# EAGLE library part TPA6120A2 (library Fugu_LSI)
High Fidelity Headphone Amplifier
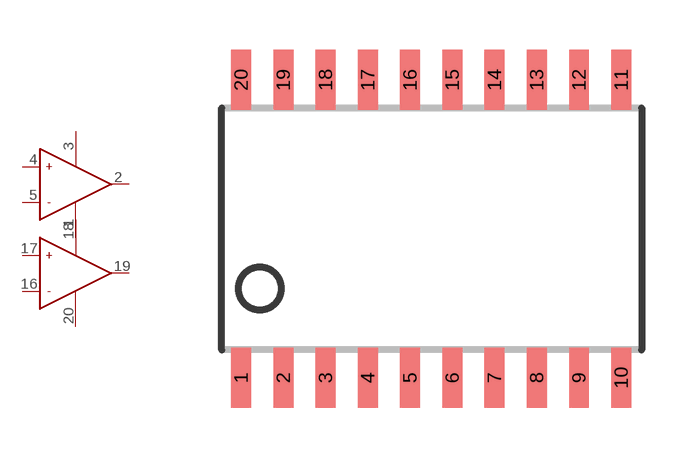
[diagram p20: symbol with the pads of SOIC-20L; footprint SOIC-20L]

Designator prefix IC; gates G$1=TPA6120A2 G$2=TPA6120A2

## TPA6120A2  [SOIC-20L]
1  G$1:VCC-
2  G$1:O
3  G$1:VCC+
4  G$1:+
5  G$1:-
16  G$2:-
17  G$2:+
18  G$2:VCC+
19  G$2:O
20  G$2:VCC-

## Footprint SOIC-20L (pad centres in mm)
smd 0.6 x 1.8: 1 -5.715,-4.475; 2 -4.445,-4.475; 3 -3.175,-4.475; 4 -1.905,-4.475; 5 -0.635,-4.475; 6 0.635,-4.475; 7 1.905,-4.475; 8 3.175,-4.475; 9 4.445,-4.475; 10 5.715,-4.475; 11 5.715,4.475; 12 4.445,4.475; 13 3.175,4.475; 14 1.905,4.475; 15 0.635,4.475; 16 -0.635,4.475; 17 -1.905,4.475; 18 -3.175,4.475; 19 -4.445,4.475; 20 -5.715,4.475